# Altium integrated library BZT52C3V3T-7.IntLib: 1 symbol
Pins are listed as number, name and electrical type; pins without a type are passive.

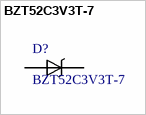
[diagram p0: symbol BZT52C3V3T-7]

## BZT52C3V3T-7
designator D?
BZT52C3V3T Series 300 mW 3.3 V 10 mA Surface Mount Zener Diode - SOD-523; MF: Diodes Inc.; Package: SOD-523 Diodes Inc.; MP: BZT52C3V3T-7; Price: None; SnapEDA_Link: https://www.snapeda.com/parts/BZT52C3V3T-7/Diodes%20Inc./view-part/?ref=snap; Availability: Unavailable; Value: *
footprint *SODFL1608X65N_BZT52C3V3T-7(Primary)
pins: A, C